# Altium footprint library SOT-563.PcbLib: 1 footprints
Each footprint in its own frame and in the unit in brackets; x right, y up, seen from the top. Pads: shape width x height; smd on the part's side, far side on the other; paste and mask are expansions set on the pad; w line width, h text height; cw(c..) or ccw(c..) is an arc to the next point about the centre after c.
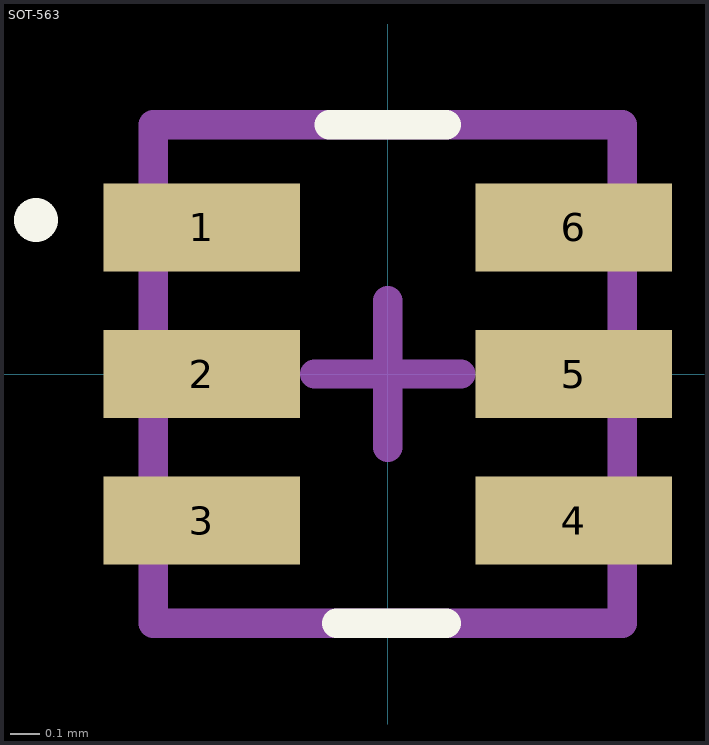
[diagram p0: the footprint, top view; thin cyan lines are the x and y axes]

## SOT-563 [mm]
pads (6):
  rect 0.67x0.3 smd mask+0.051: 1(-0.635,0.5) 2(-0.635,0) 3(-0.635,-0.5) 4(0.635,-0.5) 5(0.635,0) 6(0.635,0.5)
Top Overlay:
  circle w0.15: c-1.2,0.525 r0
  lines w0.1: -0.2,0.85 0.2,0.85 ; -0.175,-0.85 0.2,-0.85
Top Designator:
  text ".Designator" at -7.618,-0.483 h1.52
3D Body:
  lines w0.1: -0.8,-0.85 -0.8,0.85 0.8,0.85 0.8,0 0.8,-0.85 -0.8,-0.85
Center Cross:
  lines w0.1: -0.25,0 0,0 ; 0,0 0,0.25 0,0 ; 0,0 0.25,0 0,0 ; 0,0 0,-0.25 0,0
3D body "SOT-563.step": height 0.6, standoff 0.01, extent -0.813,-0.8 0.813,0.8